# Altium footprint library Arduino_nano.PcbLib: 5 footprints
Each footprint in its own frame and in the unit in brackets; x right, y up, seen from the top. Pads: shape width x height; smd on the part's side, far side on the other; paste and mask are expansions set on the pad; w line width, h text height; cw(c..) or ccw(c..) is an arc to the next point about the centre after c.
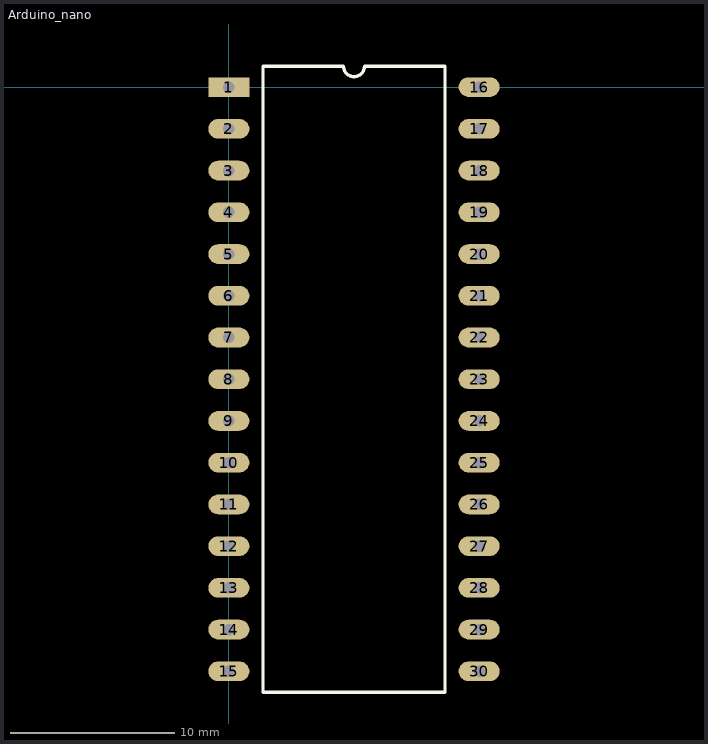
[diagram p0: the footprints below, top view; thin cyan lines are the x and y axes]

## Arduino_nano [mm]
pads (30):
  rect 2.5x1.2 hole 0.7: 1(0,0)
  oval 2.5x1.2 hole 0.7: 2(0,-2.54) 3(0,-5.08) 4(0,-7.62) 5(0,-10.16) 6(0,-12.7) 7(0,-15.24) 8(0,-17.78) 9(0,-20.32) 10(0,-22.86) 11(0,-25.4) 12(0,-27.94) 13(0,-30.48) 14(0,-33.02) 15(0,-35.56) 16(15.24,0) 17(15.24,-2.54) 18(15.24,-5.08) 19(15.24,-7.62) 20(15.24,-10.16) 21(15.24,-12.7) 22(15.24,-15.24) 23(15.24,-17.78) 24(15.24,-20.32) 25(15.24,-22.86) 26(15.24,-25.4) 27(15.24,-27.94) 28(15.24,-30.48) 29(15.24,-33.02) 30(15.24,-35.56)
Top Overlay:
  lines w0.2: 2.085,-36.83 2.085,1.27 6.985,1.27 ccw(c7.62,1.27) 8.255,1.27 13.155,1.27 13.155,-36.83 2.085,-36.83

## PCBComponent_1 [mm]

## PCBComponent_1 - duplicate [mm]

## PCBComponent_1 - duplicate1 [mm]

## PCBComponent_1 - duplicate2 [mm]